# Altium schematic symbol library PPTC041LFBN-RC.SCHLIB: 1 symbol
Pins are listed as number, name and electrical type; pins without a type are passive.

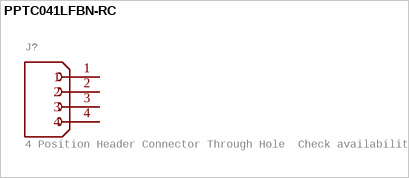
[diagram p0: symbol PPTC041LFBN-RC]

## PPTC041LFBN-RC
designator J?, comment 4 Position Header Connector Through Hole  Check availability
GateName_1: G$1; SymbolName_1: PPTC041LFBN-RC; MF: Sullins Connector; LibraryName: PPTC041LFBN-RC; DeviceSetName: PPTC041LFBN-RC; Package: SULLINS_PPTC041LFBN-RC; Package: None; Price: None; Check_prices: https://www.snapeda.com/parts/PPTC041LFBN-RC/Sullins+Connector+Solutions/view-part/?ref=eda; SnapEDA_Link: https://www.snapeda.com/parts/PPTC041LFBN-RC/Sullins+Connector+Solutions/view-part/?ref=snap; MP: PPTC041LFBN-RC; Availability: In Stock; Purchase-URL: https://www.snapeda.com/api/url_track_click_mouser/?unipart_id=285917&manufacturer=Sullins Connector&part_name=PPTC041LFBN-RC&search_term=pptc041lfbn-rc
footprint SULLINS_PPTC041LFBN-RC
pins: 1, 2, 3, 4